# Altium footprint library Diplexer.PcbLib: 1 footprints
Each footprint in its own frame and in the unit in brackets; x right, y up, seen from the top. Pads: shape width x height; smd on the part's side, far side on the other; paste and mask are expansions set on the pad; w line width, h text height; cw(c..) or ccw(c..) is an arc to the next point about the centre after c.
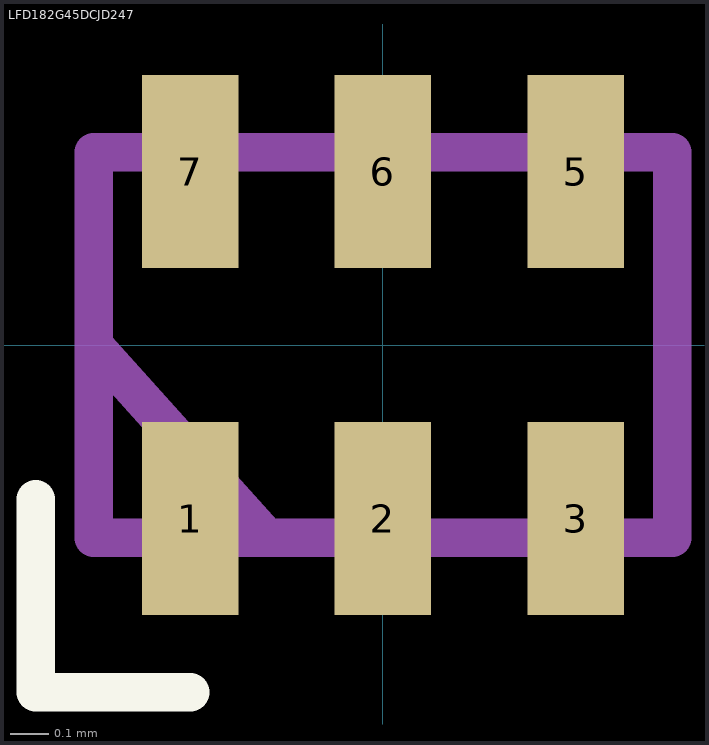
[diagram p0: the footprint, top view; thin cyan lines are the x and y axes]

## LFD182G45DCJD247 [mm] "Diplexer 2.4GHz and 5GHz"
pads (6):
  rect 0.25x0.5 smd mask-2539.97: 1(-0.5,-0.45) 2(0,-0.45) 3(0.5,-0.45) 5(0.5,0.45) 6(0,0.45) 7(-0.5,0.45)
Top Overlay:
  lines w0.1: -0.9,-0.4 -0.9,-0.9 -0.5,-0.9
Top Solder:
  region: -0.325,0.75 -0.325,0.15 -0.675,0.15 -0.675,0.75
  region: 0.175,0.75 0.175,0.15 -0.175,0.15 -0.175,0.75
  region: 0.675,0.75 0.675,0.15 0.325,0.15 0.325,0.75
  region: 0.675,-0.15 0.675,-0.75 0.325,-0.75 0.325,-0.15
  region: 0.175,-0.15 0.175,-0.75 -0.175,-0.75 -0.175,-0.15
  region: -0.325,-0.15 -0.325,-0.75 -0.675,-0.75 -0.675,-0.15
Top Designator:
  text ".Designator" at -1.231,-3.139 h0.51
Mechanical 13:
  lines w0.1: -0.75,0 -0.3,-0.5 ; -0.75,-0.5 -0.75,0.5 0.75,0.5 0.75,-0.5 -0.75,-0.5
Mechanical 15:
  lines w0.1: -0.75,-0.5 -0.75,0.5 0.75,0.5 0.75,-0.5 -0.75,-0.5
3D body "LFD182G45DCJD247.stp": height 0.7, standoff 0, extent -0.8,-0.4 0.8,0.4